# Altium footprint library SOT223.PcbLib: 1 footprints
Each footprint in its own frame and in the unit in brackets; x right, y up, seen from the top. Pads: shape width x height; smd on the part's side, far side on the other; paste and mask are expansions set on the pad; w line width, h text height; cw(c..) or ccw(c..) is an arc to the next point about the centre after c.
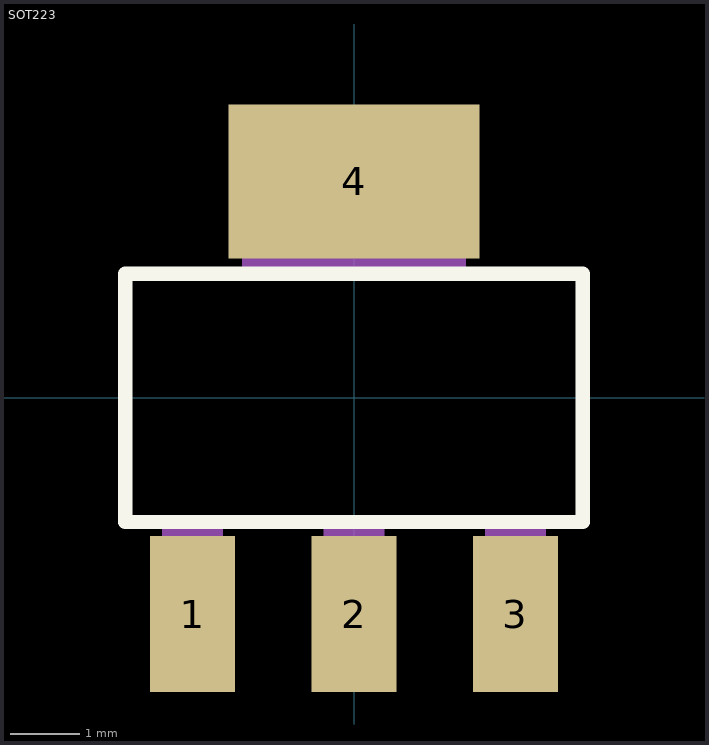
[diagram p0: the footprint, top view; thin cyan lines are the x and y axes]

## SOT223 [mm]
pads (4):
  rect 1.219x2.235 smd: 1(-2.311,-3.099) 2(0,-3.099) 3(2.311,-3.099)
  rect 3.6x2.2 smd: 4(0,3.099)
Top Overlay:
  lines w0.203: -3.277,-1.778 -3.277,1.778 3.277,1.778 3.277,-1.778 -3.277,-1.778
Mechanical 1:
  region: 1.881,-1.803 2.743,-1.803 2.743,-3.66 1.881,-3.66
  region: -2.747,-1.803 -1.88,-1.803 -1.88,-3.662 -2.747,-3.662
  region: -0.432,-1.803 0.432,-1.803 0.432,-3.663 -0.432,-3.663
  region: -1.602,3.658 1.6,3.658 1.6,1.806 -1.602,1.806
  region: 1.882,-1.803 2.743,-1.803 2.743,-3.663 1.882,-3.663
  region: -2.745,-1.803 -1.88,-1.803 -1.88,-3.66 -2.745,-3.66
  region: -0.432,-1.803 0.432,-1.803 0.432,-3.662 -0.432,-3.662
  region: -1.6,3.658 1.6,3.658 1.6,1.804 -1.6,1.804